# Altium footprint library display-hp.PCBLIB: 26 footprints (part 1 of 2)
Each footprint in its own frame and in the unit in brackets; x right, y up, seen from the top. Pads: shape width x height; smd on the part's side, far side on the other; paste and mask are expansions set on the pad; w line width, h text height; cw(c..) or ccw(c..) is an arc to the next point about the centre after c.
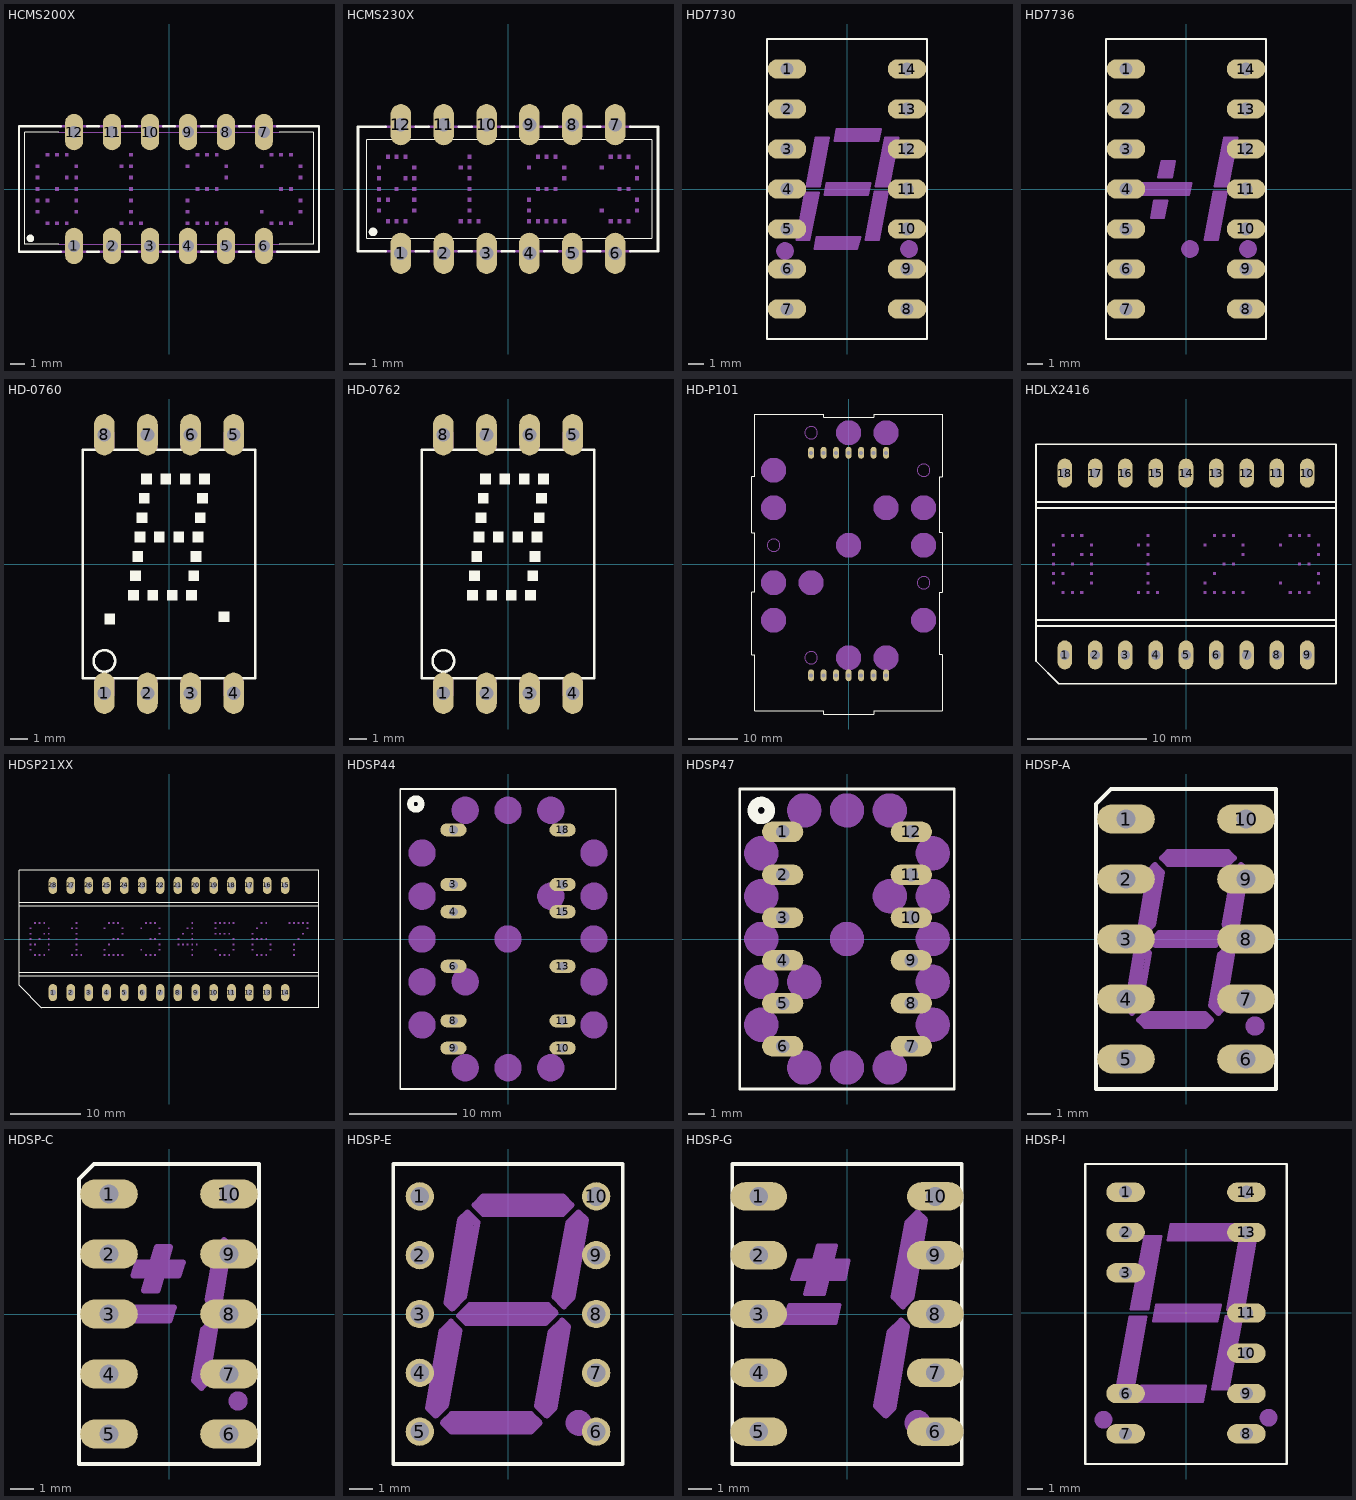
[diagram p0: the footprints below, top view; thin cyan lines are the x and y axes]

## HCMS200X [mil]
pads (12):
  oval 48x96 hole 32: 1(-250,-150) 2(-150,-150) 3(-50,-150) 4(50,-150) 5(150,-150) 6(250,-150) 7(250,150) 8(150,150) 9(50,150) 10(-50,150) 11(-150,150) 12(-250,150)
Top Overlay:
  circle w10: c-365,-130 r5
  lines w2: -290,-145 -380,-145 -380,150 -290,150 ; 290,-145 380,-145 380,150 290,150
  lines w6: -285,-165 -395,-165 -395,165 -285,165 ; -215,-165 -185,-165 ; -215,165 -185,165 ; -115,-165 -85,-165 ; -115,165 -85,165 ; -15,-165 15,-165 ; -15,165 15,165 ; 85,-165 115,-165 ; 85,165 115,165 ; 185,-165 215,-165 ; 185,165 215,165 ; 285,-165 395,-165 395,165 285,165
Mechanical 16:
  rectangle: -351,-65 -341,-55
  rectangle: -351,-35 -341,-25
  rectangle: -351,-5 -341,5
  rectangle: -351,25 -341,35
  rectangle: -351,55 -341,65
  rectangle: -325,-95 -315,-85
  rectangle: -325,-35 -315,-25
  rectangle: -325,85 -315,95
  rectangle: -300,-95 -290,-85
  rectangle: -300,-5 -290,5
  rectangle: -300,85 -290,95
  rectangle: -274,-95 -264,-85
  rectangle: -274,25 -264,35
  rectangle: -274,85 -264,95
  rectangle: -249,-65 -239,-55
  rectangle: -249,-35 -239,-25
  rectangle: -249,-5 -239,5
  rectangle: -249,25 -239,35
  rectangle: -249,55 -239,65
  rectangle: -130,-95 -120,-85
  rectangle: -130,55 -120,65
  rectangle: -105,-95 -95,-85
  rectangle: -105,-65 -95,-55
  rectangle: -105,-35 -95,-25
  rectangle: -105,-5 -95,5
  rectangle: -105,25 -95,35
  rectangle: -105,55 -95,65
  rectangle: -105,85 -95,95
  rectangle: -79,-95 -69,-85
  rectangle: 44,-95 54,-85
  rectangle: 44,-65 54,-55
  rectangle: 44,-35 54,-25
  rectangle: 44,55 54,65
  rectangle: 70,-95 80,-85
  rectangle: 70,-5 80,5
  rectangle: 70,85 80,95
  rectangle: 95,-95 105,-85
  rectangle: 95,-5 105,5
  rectangle: 95,85 105,95
  rectangle: 121,-95 131,-85
  rectangle: 121,-5 131,5
  rectangle: 121,85 131,95
  rectangle: 146,-95 156,-85
  rectangle: 146,25 156,35
  rectangle: 146,55 156,65
  rectangle: 239,-65 249,-55
  rectangle: 239,55 249,65
  rectangle: 265,-95 275,-85
  rectangle: 265,85 275,95
  rectangle: 290,-95 300,-85
  rectangle: 290,-5 300,5
  rectangle: 290,85 300,95
  rectangle: 316,-95 326,-85
  rectangle: 316,-5 326,5
  rectangle: 316,85 326,95
  rectangle: 341,-65 351,-55
  rectangle: 341,-35 351,-25
  rectangle: 341,25 351,35
  rectangle: 341,55 351,65
  lines w2: -290,-145 290,-145 ; -290,150 290,150
  lines w6: -285,-165 -215,-165 ; -285,165 -215,165 ; -185,-165 -115,-165 ; -185,165 -115,165 ; -85,-165 -15,-165 ; -85,165 -15,165 ; 15,-165 85,-165 ; 15,165 85,165 ; 115,-165 185,-165 ; 115,165 185,165 ; 215,-165 285,-165 ; 215,165 285,165

## HCMS230X [mil]
pads (12):
  oval 48x96 hole 32: 1(-250,-150) 2(-150,-150) 3(-50,-150) 4(50,-150) 5(150,-150) 6(250,-150) 7(250,150) 8(150,150) 9(50,150) 10(-50,150) 11(-150,150) 12(-250,150)
Top Overlay:
  circle w10: c-315,-100 r5
  lines w2: -330,-115 -330,115 335,115 335,-115 -330,-115
  lines w6: -285,-145 -350,-145 -350,145 -285,145 ; -215,-145 -185,-145 ; -215,145 -185,145 ; -115,-145 -85,-145 ; -115,145 -85,145 ; -15,-145 15,-145 ; -15,145 15,145 ; 85,-145 115,-145 ; 85,145 115,145 ; 185,-145 215,-145 ; 185,145 215,145 ; 285,-145 350,-145 350,145 285,145
Mechanical 16:
  rectangle: -306,-55 -296,-45
  rectangle: -306,-30 -296,-20
  rectangle: -306,-5 -296,5
  rectangle: -306,20 -296,30
  rectangle: -306,45 -296,55
  rectangle: -285,-80 -275,-70
  rectangle: -285,-30 -275,-20
  rectangle: -285,70 -275,80
  rectangle: -265,-80 -255,-70
  rectangle: -265,-5 -255,5
  rectangle: -265,70 -255,80
  rectangle: -244,-80 -234,-70
  rectangle: -244,20 -234,30
  rectangle: -244,70 -234,80
  rectangle: -224,-55 -214,-45
  rectangle: -224,-30 -214,-20
  rectangle: -224,-5 -214,5
  rectangle: -224,20 -214,30
  rectangle: -224,45 -214,55
  rectangle: -115,-80 -105,-70
  rectangle: -115,45 -105,55
  rectangle: -95,-80 -85,-70
  rectangle: -95,-55 -85,-45
  rectangle: -95,-30 -85,-20
  rectangle: -95,-5 -85,5
  rectangle: -95,20 -85,30
  rectangle: -95,45 -85,55
  rectangle: -95,70 -85,80
  rectangle: -74,-80 -64,-70
  rectangle: 44,-80 54,-70
  rectangle: 44,-55 54,-45
  rectangle: 44,-30 54,-20
  rectangle: 44,45 54,55
  rectangle: 65,-80 75,-70
  rectangle: 65,-5 75,5
  rectangle: 65,70 75,80
  rectangle: 85,-80 95,-70
  rectangle: 85,-5 95,5
  rectangle: 85,70 95,80
  rectangle: 106,-80 116,-70
  rectangle: 106,-5 116,5
  rectangle: 106,70 116,80
  rectangle: 126,-80 136,-70
  rectangle: 126,20 136,30
  rectangle: 126,45 136,55
  rectangle: 214,-55 224,-45
  rectangle: 214,45 224,55
  rectangle: 235,-80 245,-70
  rectangle: 235,70 245,80
  rectangle: 255,-80 265,-70
  rectangle: 255,-5 265,5
  rectangle: 255,70 265,80
  rectangle: 276,-80 286,-70
  rectangle: 276,-5 286,5
  rectangle: 276,70 286,80
  rectangle: 296,-55 306,-45
  rectangle: 296,-30 306,-20
  rectangle: 296,20 306,30
  rectangle: 296,45 306,55
  lines w6: -285,-145 -215,-145 ; -285,145 -215,145 ; -185,-145 -115,-145 ; -185,145 -115,145 ; -85,-145 -15,-145 ; -85,145 -15,145 ; 15,-145 85,-145 ; 15,145 85,145 ; 115,-145 185,-145 ; 115,145 185,145 ; 215,-145 285,-145 ; 215,145 285,145

## HD7730 [mil]
pads (14):
  oval 96x48 hole 32: 1(-150,300) 2(-150,200) 3(-150,100) 4(-150,0) 5(-150,-100) 6(-150,-200) 7(-150,-300) 8(150,-300) 9(150,-200) 10(150,-100) 11(150,0) 12(150,100) 13(150,200) 14(150,300)
Top Overlay:
  lines w6: -200,-375 200,-375 200,375 -200,375 -200,-375
Mechanical 16:
  circle w24: c155,-150 r10
  circle w24: c-155,-155 r10
  lines w6: 74,125 79,146 ; -126,-127 -104,-9 -71,-9 -94,-127 -126,-127 ; -101,7 -68,7 -45,128 -78,128 -101,7 ; -81,-150 -76,-120 33,-120 25,-150 -81,-150 ; -56,-15 52,-15 58,15 -51,15 -56,-15 ; -31,120 78,120 84,150 -26,150 -31,120 ; 47,-127 79,-127 102,-7 69,-7 47,-127 ; 72,7 105,7 128,128 96,128 72,7
  lines w10: -119,-116 -121,-123 -98,-123 -97,-118 ; -101,-15 -77,-15 -78,-20 ; -94,21 -96,11 -71,11 ; -75,123 -51,123 -52,119 ; -71,-125 -76,-146 -70,-146 ; -46,10 -50,-11 -44,-11 ; -21,145 -25,124 -20,124 ; 14,-125 26,-125 20,-146 ; 37,10 52,10 48,-11 ; 55,-114 53,-122 75,-122 ; 68,125 74,125 ; 70,146 79,146 ; 72,-13 97,-13 95,-23 ; 80,20 78,12 101,12 ; 99,123 123,123 122,117
  lines w12: -155,-155 -145,-155 ; 150,-150 160,-150
  lines w32: -107,-111 -91,-28 ; -82,24 -64,112 ; -64,-135 11,-135 ; -37,0 39,0 ; -12,135 64,135 ; 66,-110 83,-25 ; 92,26 109,112

## HD7736 [mil]
pads (14):
  oval 96x48 hole 32: 1(-150,300) 2(-150,200) 3(-150,100) 4(-150,0) 5(-150,-100) 6(-150,-200) 7(-150,-300) 8(150,-300) 9(150,-200) 10(150,-100) 11(150,0) 12(150,100) 13(150,200) 14(150,300)
Top Overlay:
  lines w6: -200,-375 200,-375 200,375 -200,375 -200,-375
Mechanical 16:
  circle w24: c155,-150 r10
  circle w24: c10,-150 r10
  lines w6: -136,-15 7,-15 13,15 -131,15 -136,-15 ; -87,-72 -80,-29 -47,-29 -55,-72 -87,-72 ; -69,29 -36,29 -28,70 -61,70 -69,29 ; 47,-127 79,-127 102,-7 69,-7 47,-127 ; 72,7 105,7 128,128 96,128 72,7
  lines w10: -126,10 -130,-11 -124,-11 ; -80,-61 -82,-68 -59,-68 -58,-63 ; -77,-35 -53,-35 -54,-40 ; -62,43 -64,33 -39,33 ; -58,65 -34,65 -35,61 ; -23,10 7,10 3,-11 ; 55,-114 53,-122 75,-122 ; 72,-13 97,-13 95,-23 ; 80,20 78,12 100,12 ; 99,123 123,123 122,117
  lines w12: 10,-150 20,-150 ; 150,-150 160,-150
  lines w32: -117,0 -11,0 ; -68,-56 -67,-48 ; -50,46 -47,54 ; 66,-110 83,-25 ; 92,26 109,112

## HD-0760 [mil]
pads (8):
  oval 48x96 hole 32: 1(-150,-300) 2(-50,-300) 3(50,-300) 4(150,-300) 5(150,300) 6(50,300) 7(-50,300) 8(-150,300)
Top Overlay:
  circle w6: c-150,-225 r25
  rectangle: -65,185 -40,210
  rectangle: -20,185 5,210
  rectangle: 25,185 50,210
  rectangle: 70,185 95,210
  rectangle: -70,140 -45,165
  rectangle: -75,95 -50,120
  rectangle: -80,50 -55,75
  rectangle: -85,5 -60,30
  rectangle: -90,-40 -65,-15
  rectangle: -35,50 -10,75
  rectangle: -95,-85 -70,-60
  rectangle: 10,50 35,75
  rectangle: 55,50 80,75
  rectangle: 65,140 90,165
  rectangle: 60,95 85,120
  rectangle: 50,5 75,30
  rectangle: 45,-40 70,-15
  rectangle: 40,-85 65,-60
  rectangle: -50,-85 -25,-60
  rectangle: -5,-85 20,-60
  rectangle: 115,-135 140,-110
  rectangle: -150,-140 -125,-115
  lines w6: -200,-265 200,-265 200,265 -200,265 -200,-265
Mechanical 16:
  lines w6: -170,-265 -170,-305 -130,-305 -130,-265 ; -170,265 -170,305 -130,305 -130,265 ; -70,-265 -70,-305 -30,-305 -30,-265 ; -70,265 -70,305 -30,305 -30,265 ; 30,-265 30,-305 70,-305 70,-265 ; 30,265 30,305 70,305 70,265 ; 130,-265 130,-305 170,-305 170,-265 ; 130,265 130,305 170,305 170,265

## HD-0762 [mil]
pads (8):
  oval 48x96 hole 32: 1(-150,-300) 2(-50,-300) 3(50,-300) 4(150,-300) 5(150,300) 6(50,300) 7(-50,300) 8(-150,300)
Top Overlay:
  circle w6: c-150,-225 r25
  rectangle: -65,185 -40,210
  rectangle: -20,185 5,210
  rectangle: 25,185 50,210
  rectangle: 70,185 95,210
  rectangle: -70,140 -45,165
  rectangle: -75,95 -50,120
  rectangle: -80,50 -55,75
  rectangle: -85,5 -60,30
  rectangle: -90,-40 -65,-15
  rectangle: -35,50 -10,75
  rectangle: -95,-85 -70,-60
  rectangle: 10,50 35,75
  rectangle: 55,50 80,75
  rectangle: 65,140 90,165
  rectangle: 60,95 85,120
  rectangle: 50,5 75,30
  rectangle: 45,-40 70,-15
  rectangle: 40,-85 65,-60
  rectangle: -50,-85 -25,-60
  rectangle: -5,-85 20,-60
  lines w6: -200,-265 200,-265 200,265 -200,265 -200,-265
Mechanical 16:
  lines w6: -170,-265 -170,-305 -130,-305 -130,-265 ; -170,265 -170,305 -130,305 -130,265 ; -70,-265 -70,-305 -30,-305 -30,-265 ; -70,265 -70,305 -30,305 -30,265 ; 30,-265 30,-305 70,-305 70,-265 ; 30,265 30,305 70,305 70,265 ; 130,-265 130,-305 170,-305 170,-265 ; 130,265 130,305 170,305 170,265

## HD-P101 [mil]
pads (14):
  oval 48x96 hole 32: 1(-300,-890) 2(-200,-890) 3(-100,-890) 4(0,-890) 5(100,-890) 6(200,-890) 7(300,-890) 8(300,890) 9(200,890) 10(100,890) 11(0,890) 12(-100,890) 13(-200,890) 14(-300,890)
Top Overlay:
  lines w6: -775,-725 -750,-725 -750,-1175 -200,-1175 -200,-1200 200,-1200 200,-1175 750,-1175 750,-725 725,-725 725,-225 750,-225 750,250 725,250 725,700 750,700 750,1200 200,1200 200,1175 -200,1175 -200,1200 -750,1200 -750,700 -775,700 -775,250 -750,250 -750,-225 -775,-225 -775,-725
Mechanical 16:
  circle w100: c0,150 r50
  circle w100: c0,-750 r50
  circle w100: c300,450 r50
  circle w100: c300,-750 r50
  circle w100: c600,-450 r50
  circle w6: c600,-150 r50
  circle w100: c600,150 r50
  circle w100: c600,450 r50
  circle w6: c600,750 r50
  circle w6: c-300,-750 r50
  circle w100: c-300,-150 r50
  circle w100: c-600,750 r50
  circle w100: c-600,450 r50
  circle w6: c-600,150 r50
  circle w100: c-600,-150 r50
  circle w100: c-600,-450 r50
  circle w100: c300,1050 r50
  circle w100: c0,1050 r50
  circle w6: c-300,1050 r50

## HDLX2416 [mil]
pads (18):
  oval 48x96 hole 32: 1(-400,-300) 2(-300,-300) 3(-200,-300) 4(-100,-300) 5(0,-300) 6(100,-300) 7(200,-300) 8(300,-300) 9(400,-300) 10(400,300) 11(300,300) 12(200,300) 13(100,300) 14(0,300) 15(-100,300) 16(-200,300) 17(-300,300) 18(-400,300)
Top Overlay:
  lines w6: -495,-205 495,-205 ; -495,-205 -495,-185 ; -495,-205 -495,-320 -420,-395 495,-395 495,-205 ; -495,-185 495,-185 ; -495,-185 -495,185 ; -495,185 495,185 ; -495,185 -495,205 ; -495,205 495,205 ; -495,205 -495,395 495,395 495,205 ; 495,-205 495,-185 ; 495,-185 495,185 ; 495,185 495,205
Mechanical 16:
  rectangle: -380,-5 -370,5
  rectangle: -443,-5 -433,5
  rectangle: -317,-5 -307,5
  rectangle: -380,89 -370,99
  rectangle: -349,26 -339,36
  rectangle: -349,89 -339,99
  rectangle: -317,58 -307,68
  rectangle: -317,26 -307,36
  rectangle: -411,89 -401,99
  rectangle: -443,58 -433,68
  rectangle: -443,26 -433,36
  rectangle: -411,-36 -401,-26
  rectangle: -443,-36 -433,-26
  rectangle: -317,-36 -307,-26
  rectangle: -317,-68 -307,-58
  rectangle: -443,-68 -433,-58
  rectangle: -411,-99 -401,-89
  rectangle: -380,-99 -370,-89
  rectangle: -349,-99 -339,-89
  rectangle: -130,-5 -120,5
  rectangle: -130,26 -120,36
  rectangle: -130,-36 -120,-26
  rectangle: -130,58 -120,68
  rectangle: -130,89 -120,99
  rectangle: -130,-68 -120,-58
  rectangle: -161,58 -151,68
  rectangle: -161,-99 -151,-89
  rectangle: -130,-99 -120,-89
  rectangle: -99,-99 -89,-89
  rectangle: 120,-5 130,5
  rectangle: 151,-5 161,5
  rectangle: 120,89 130,99
  rectangle: 151,89 161,99
  rectangle: 183,58 193,68
  rectangle: 183,26 193,36
  rectangle: 89,89 99,99
  rectangle: 57,58 67,68
  rectangle: 89,-36 99,-26
  rectangle: 57,-68 67,-58
  rectangle: 57,-99 67,-89
  rectangle: 89,-99 99,-89
  rectangle: 120,-99 130,-89
  rectangle: 151,-99 161,-89
  rectangle: 183,-99 193,-89
  rectangle: 370,-5 380,5
  rectangle: 401,-5 411,5
  rectangle: 370,89 380,99
  rectangle: 401,89 411,99
  rectangle: 433,58 443,68
  rectangle: 433,26 443,36
  rectangle: 339,89 349,99
  rectangle: 307,58 317,68
  rectangle: 433,-36 443,-26
  rectangle: 433,-68 443,-58
  rectangle: 307,-68 317,-58
  rectangle: 339,-99 349,-89
  rectangle: 370,-99 380,-89
  rectangle: 401,-99 411,-89

## HDSP21XX [mil]
pads (28):
  oval 48x96 hole 32: 1(-650,-300) 2(-550,-300) 3(-450,-300) 4(-350,-300) 5(-250,-300) 6(-150,-300) 7(-50,-300) 8(50,-300) 9(150,-300) 10(250,-300) 11(350,-300) 12(450,-300) 13(550,-300) 14(650,-300) 15(650,300) 16(550,300) 17(450,300) 18(350,300) 19(250,300) 20(150,300) 21(50,300) 22(-50,300) 23(-150,300) 24(-250,300) 25(-350,300) 26(-450,300) 27(-550,300) 28(-650,300)
Top Overlay:
  lines w6: -840,-205 840,-205 ; -840,-205 -840,-185 ; -840,-205 -840,-260 -715,-385 840,-385 840,-205 ; -840,-185 840,-185 ; -840,-185 -840,185 ; -840,185 840,185 ; -840,185 -840,205 ; -840,205 840,205 ; -840,205 -840,385 840,385 840,205 ; 840,-205 840,-185 ; 840,-185 840,185 ; 840,185 840,205
Mechanical 16:
  rectangle: -781,-65 -771,-55
  rectangle: -781,-35 -771,-25
  rectangle: -781,-5 -771,5
  rectangle: -781,25 -771,35
  rectangle: -781,55 -771,65
  rectangle: -755,-95 -745,-85
  rectangle: -755,-35 -745,-25
  rectangle: -755,85 -745,95
  rectangle: -730,-95 -720,-85
  rectangle: -730,-5 -720,5
  rectangle: -730,85 -720,95
  rectangle: -704,-95 -694,-85
  rectangle: -704,25 -694,35
  rectangle: -704,85 -694,95
  rectangle: -679,-65 -669,-55
  rectangle: -679,-35 -669,-25
  rectangle: -679,-5 -669,5
  rectangle: -679,25 -669,35
  rectangle: -679,55 -669,65
  rectangle: -548,-95 -538,-85
  rectangle: -548,55 -538,65
  rectangle: -523,-95 -513,-85
  rectangle: -523,-65 -513,-55
  rectangle: -523,-35 -513,-25
  rectangle: -523,-5 -513,5
  rectangle: -523,25 -513,35
  rectangle: -523,55 -513,65
  rectangle: -523,85 -513,95
  rectangle: -497,-95 -487,-85
  rectangle: -367,-95 -357,-85
  rectangle: -367,-65 -357,-55
  rectangle: -367,55 -357,65
  rectangle: -341,-95 -331,-85
  rectangle: -341,-35 -331,-25
  rectangle: -341,85 -331,95
  rectangle: -316,-95 -306,-85
  rectangle: -316,-5 -306,5
  rectangle: -316,85 -306,95
  rectangle: -290,-95 -280,-85
  rectangle: -290,-5 -280,5
  rectangle: -290,85 -280,95
  rectangle: -265,-95 -255,-85
  rectangle: -265,25 -255,35
  rectangle: -265,55 -255,65
  rectangle: -160,-65 -150,-55
  rectangle: -160,55 -150,65
  rectangle: -134,-95 -124,-85
  rectangle: -134,85 -124,95
  rectangle: -109,-95 -99,-85
  rectangle: -109,-5 -99,5
  rectangle: -109,85 -99,95
  rectangle: -83,-95 -73,-85
  rectangle: -83,-5 -73,5
  rectangle: -83,85 -73,95
  rectangle: -58,-65 -48,-55
  rectangle: -58,-35 -48,-25
  rectangle: -58,25 -48,35
  rectangle: -58,55 -48,65
  rectangle: 48,-35 58,-25
  rectangle: 48,-5 58,5
  rectangle: 74,-35 84,-25
  rectangle: 74,25 84,35
  rectangle: 99,-35 109,-25
  rectangle: 99,55 109,65
  rectangle: 125,-95 135,-85
  rectangle: 125,-65 135,-55
  rectangle: 125,-35 135,-25
  rectangle: 125,-5 135,5
  rectangle: 125,25 135,35
  rectangle: 125,55 135,65
  rectangle: 125,85 135,95
  rectangle: 150,-35 160,-25
  rectangle: 255,-65 265,-55
  rectangle: 255,25 265,35
  rectangle: 255,55 265,65
  rectangle: 255,85 265,95
  rectangle: 281,-95 291,-85
  rectangle: 281,25 291,35
  rectangle: 281,85 291,95
  rectangle: 306,-95 316,-85
  rectangle: 306,25 316,35
  rectangle: 306,85 316,95
  rectangle: 332,-95 342,-85
  rectangle: 332,25 342,35
  rectangle: 332,85 342,95
  rectangle: 357,-65 367,-55
  rectangle: 357,-35 367,-25
  rectangle: 357,-5 367,5
  rectangle: 357,85 367,95
  rectangle: 462,-65 472,-55
  rectangle: 462,-35 472,-25
  rectangle: 462,-5 472,5
  rectangle: 462,25 472,35
  rectangle: 488,-95 498,-85
  rectangle: 488,-5 498,5
  rectangle: 488,55 498,65
  rectangle: 513,-95 523,-85
  rectangle: 513,-5 523,5
  rectangle: 513,85 523,95
  rectangle: 539,-95 549,-85
  rectangle: 539,-5 549,5
  rectangle: 539,85 549,95
  rectangle: 564,-65 574,-55
  rectangle: 564,-35 574,-25
  rectangle: 669,85 679,95
  rectangle: 695,-95 705,-85
  rectangle: 695,-65 705,-55
  rectangle: 695,-35 705,-25
  rectangle: 695,85 705,95
  rectangle: 720,-5 730,5
  rectangle: 720,85 730,95
  rectangle: 746,25 756,35
  rectangle: 746,85 756,95
  rectangle: 771,55 781,65
  rectangle: 771,85 781,95

## HDSP44 [mil]
pads (12):
  oval 96x48 hole 32: 1(-200,400) 3(-200,200) 4(-200,100) 6(-200,-100) 8(-200,-300) 9(-200,-400) 10(200,-400) 11(200,-300) 13(200,-100) 15(200,100) 16(200,200) 18(200,400)
Top Overlay:
  circle w24: c-338,495 r20
  lines w6: -395,-550 395,-550 395,550 -395,550 -395,-550
Mechanical 16:
  circle w50: c0,0 r25
  circle w50: c157,157 r25
  circle w50: c315,0 r25
  circle w50: c-315,157 r25
  circle w50: c-315,0 r25
  circle w50: c-315,315 r25
  circle w50: c-157,472 r25
  circle w50: c0,472 r25
  circle w50: c-157,-157 r25
  circle w50: c-315,-315 r25
  circle w50: c0,-472 r25
  circle w50: c-315,-157 r25
  circle w50: c-157,-472 r25
  circle w50: c157,-472 r25
  circle w50: c315,-315 r25
  circle w50: c315,-157 r25
  circle w50: c315,157 r25
  circle w50: c315,315 r25
  circle w50: c157,472 r25

## HDSP47 [mil]
pads (12):
  oval 96x48 hole 32: 1(-150,250) 2(-150,150) 3(-150,50) 4(-150,-50) 5(-150,-150) 6(-150,-250) 7(150,-250) 8(150,-150) 9(150,-50) 10(150,50) 11(150,150) 12(150,250)
Top Overlay:
  circle w24: c-200,300 r20
  lines w6: -250,-350 250,-350 250,350 -250,350 -250,-350
Mechanical 16:
  circle w40: c0,0 r20
  circle w40: c200,0 r20
  circle w40: c-200,0 r20
  circle w40: c0,-300 r20
  circle w40: c0,300 r20
  circle w40: c100,100 r20
  circle w40: c100,300 r20
  circle w40: c-100,300 r20
  circle w40: c-200,100 r20
  circle w40: c-200,200 r20
  circle w40: c200,100 r20
  circle w40: c200,200 r20
  circle w40: c200,-100 r20
  circle w40: c-100,-100 r20
  circle w40: c-200,-100 r20
  circle w40: c-200,-200 r20
  circle w40: c-100,-300 r20
  circle w40: c200,-200 r20
  circle w40: c100,-300 r20

## HDSP-A [mil]
pads (10):
  oval 96x48 hole 32: 1(-100,200) 2(-100,100) 3(-100,0) 4(-100,-100) 5(-100,-200) 6(100,-200) 7(100,-100) 8(100,0) 9(100,100) 10(100,200)
Top Overlay:
  lines w6: -150,-250 -150,225 -125,250 150,250 150,-250 -150,-250
Mechanical 16:
  circle w12: c115,-145 r10
  lines w10: -98,-115 -83,-24 -72,-13 -62,-23 -77,-110 -90,-123 -98,-115 ; -78,-135 -68,-125 32,-125 42,-135 32,-145 -68,-145 -78,-135 ; -75,24 -65,14 -55,24 -40,111 -52,123 -60,115 -75,24 ; -58,-3 -45,10 53,10 61,2 49,-10 -51,-10 -58,-3 ; -40,135 -30,125 70,125 80,135 70,145 -30,145 -40,135 ; 42,-111 57,-26 67,-16 77,-26 62,-115 54,-123 42,-111 ; 64,24 80,111 92,123 100,115 85,23 75,13 64,24
  lines w12: 110,-145 120,-145
  lines w16: -90,-115 -75,-25 ; -65,-135 30,-135 ; -65,25 -50,110 ; -50,0 50,0 ; -30,135 70,135 ; 50,-110 65,-30 ; 75,25 90,110

## HDSP-C [mil]
pads (10):
  oval 96x48 hole 32: 1(-100,200) 2(-100,100) 3(-100,0) 4(-100,-100) 5(-100,-200) 6(100,-200) 7(100,-100) 8(100,0) 9(100,100) 10(100,200)
Top Overlay:
  lines w6: -150,-250 -150,225 -125,250 150,250 150,-250 -150,-250
Mechanical 16:
  circle w12: c115,-145 r10
  lines w10: -79,-11 -68,11 8,11 1,-11 -79,-11 ; -59,64 -53,86 23,86 16,64 -59,64 ; -42,39 -19,39 2,112 -20,112 -42,39 ; 42,-111 57,-26 67,-16 77,-26 62,-115 54,-123 42,-111 ; 64,24 80,111 92,123 100,115 85,23 75,13 64,24
  lines w12: 110,-145 120,-145
  lines w16: -70,0 0,0 ; -50,75 15,75 ; -30,45 -10,105 ; 50,-110 65,-30 ; 75,25 90,110

## HDSP-E [mil]
pads (10):
  round 48 hole 32: 1(-150,200) 2(-150,100) 3(-150,0) 4(-150,-100) 5(-150,-200) 6(150,-200) 7(150,-100) 8(150,0) 9(150,100) 10(150,200)
Top Overlay:
  lines w6: -195,-255 195,-255 195,255 -195,255 -195,-255
Mechanical 16:
  circle w24: c120,-185 r10
  lines w10: -136,-160 -113,-29 -97,-13 -82,-28 -105,-155 -123,-173 -136,-160 ; -111,-185 -96,-170 39,-170 54,-185 39,-200 -96,-200 -111,-185 ; -105,19 -95,9 -75,29 -52,156 -69,173 -82,160 -105,19 ; -83,-3 -65,15 68,15 81,2 64,-15 -71,-15 -83,-3 ; -57,185 -42,170 93,170 108,185 93,200 -42,200 -57,185 ; 49,-156 72,-31 92,-11 102,-21 79,-160 66,-173 49,-156 ; 79,29 103,156 120,173 133,160 110,28 95,13 79,29
  lines w12: 115,-185 125,-185
  lines w24: -120,-155 -95,-25 ; -95,-185 40,-185 ; -90,25 -70,155 ; -70,0 65,0 ; -40,185 95,185 ; 65,-155 90,-25 ; 95,30 120,160

## HDSP-G [mil]
pads (10):
  oval 96x48 hole 32: 1(-150,200) 2(-150,100) 3(-150,0) 4(-150,-100) 5(-150,-200) 6(150,-200) 7(150,-100) 8(150,0) 9(150,100) 10(150,200)
Top Overlay:
  lines w6: -195,-255 195,-255 195,255 -195,255 -195,-255
Mechanical 16:
  circle w24: c120,-185 r10
  lines w6: -109,-16 -98,16 -12,16 -19,-16 -109,-16 ; -94,59 -83,91 3,91 -4,59 -94,59 ; -72,34 -39,34 -18,117 -50,117 -72,34
  lines w10: -94,-12 -103,-12 -94,11 -92,11 ; -80,87 -88,64 -77,64 ; -67,39 -42,39 ; -49,106 -47,112 -23,112 -25,106 ; -28,-11 -23,-11 ; -28,12 -17,12 ; -18,86 -2,86 -7,64 -13,64 ; 49,-156 72,-31 92,-11 102,-21 79,-160 66,-173 49,-156 ; 79,29 103,156 120,173 133,160 110,28 95,13 79,29
  lines w12: 115,-185 125,-185
  lines w24: 65,-155 90,-25 ; 95,30 120,160
  lines w32: -87,0 -30,0 ; -71,75 -21,75 ; -52,49 -38,101

## HDSP-I [mil]
pads (11):
  oval 96x48 hole 32: 1(-150,300) 2(-150,200) 3(-150,100) 6(-150,-200) 7(-150,-300) 8(150,-300) 9(150,-200) 10(150,-100) 11(150,0) 13(150,200) 14(150,300)
Top Overlay:
  lines w6: -250,-375 250,-375 250,370 -250,370 -250,-375
Mechanical 16:
  circle w24: c205,-260 r10
  circle w24: c-205,-265 r10
  lines w6: 73,-16 80,15 ; 102,185 111,185 ; -173,-192 -140,-9 -98,-9 -131,-192 -173,-192 ; -137,9 -94,9 -61,191 -103,191 -137,9 ; -118,-221 -111,-181 49,-181 42,-221 -118,-221 ; -82,-20 78,-20 86,20 -74,20 -82,-20 ; -45,180 115,180 123,220 -38,220 -45,180 ; 65,-190 105,-190 140,-8 99,-8 65,-190 ; 102,8 143,8 175,190 135,190 102,8
  lines w10: -165,-179 -167,-187 -135,-187 -133,-178 ; -136,-14 -104,-14 -105,-25 ; -130,21 -132,13 -97,13 ; -107,-185 -112,-217 -103,-217 ; -99,186 -66,186 -68,177 ; -70,15 -76,-16 -67,-16 ; -33,216 -39,184 -31,184 ; 31,-185 43,-185 38,-217 ; 61,15 80,15 ; 71,-179 69,-185 102,-185 ; 103,-13 135,-13 132,-23 ; 105,216 117,216 111,185 ; 110,25 107,13 140,13 ; 138,184 170,184 168,177
  lines w12: -205,-265 -195,-265 ; 200,-260 210,-260
  lines w40: -149,-172 -123,-29 ; -112,28 -86,172 ; -94,-201 25,-201 ; -56,0 62,0 ; -21,200 98,200 ; 88,-171 116,-28 ; 126,27 152,169